# EAGLE library part SCHALTER_APEM_TL4XW00 (library 1A-meinLib)
Toggle switch, Subminiaturhebelschalter, Typ TL3xW00, 2 x Um, liegend, Betätigung horizontal. I = 1-2, III = 2-3, APEM
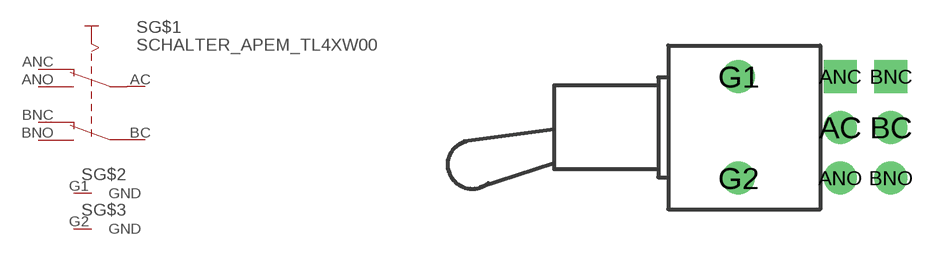
[diagram p182: symbol with the pads of SWITCH_APEM-TL4XW00; footprint SWITCH_APEM-TL4XW00]

Designator prefix S; gates G$1=SCHALTER-2POLIG-UM G$2=GND G$3=GND

## SCHALTER_APEM_TL4XW00  [SWITCH_APEM-TL4XW00]
AC  G$1:C1  pas
ANC  G$1:NC1  pas
ANO  G$1:NO1  pas
BC  G$1:C2  pas
BNC  G$1:NC2  pas
BNO  G$1:NO2  pas
G1  G$2:GND  pwr
G2  G$3:GND  pwr

## Footprint SWITCH_APEM-TL4XW00 (pad centres in mm)
Toggle switch, Subminiaturhebelschalter, Typ TL4xW00, 2 x Um, liegend, Betätigung horizontal. I = 1-2, III = 2-3
drill 1.1 round: AC 0,0; ANO 0,-2.54; BC 2.54,0; BNO 2.54,-2.54; G1 -5.08,2.54; G2 -5.08,-2.54
drill 1.1 square: ANC 0,2.54; BNC 2.54,2.54